# EAGLE library part MMA7361L (library Zoli2_2015-02-22)
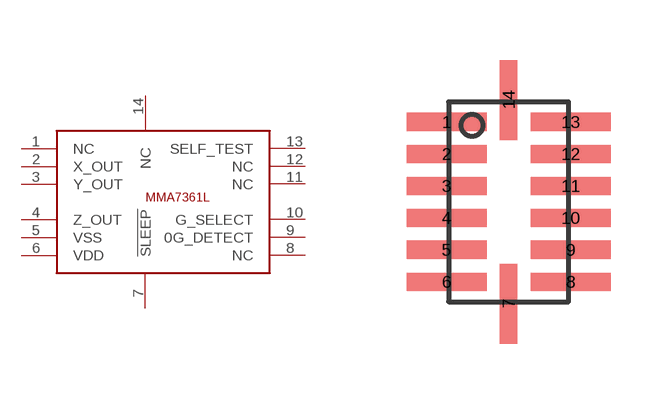
[diagram p68: symbol with the pads of LGA14; footprint LGA14]

Designator prefix -

## MMA7361L  [LGA14]
1  NC
2  X_OUT  out
3  Y_OUT  out
4  Z_OUT  out
5  VSS  pwr
6  VDD  pwr
7  !SLEEP
8  NC
9  0G_DETECT
10  G_SELECT
11  NC
12  NC
13  SELF_TEST
14  NC

## Footprint LGA14 (pad centres in mm)
smd 2 x 0.45: 1 -1.55,2; 2 -1.55,1.2; 3 -1.55,0.4; 4 -1.55,-0.4; 5 -1.55,-1.2; 6 -1.55,-2; 8 1.55,-2; 9 1.55,-1.2; 10 1.55,-0.4; 11 1.55,0.4; 12 1.55,1.2; 13 1.55,2
smd 0.45 x 2: 7 0,-2.55; 14 0,2.55